# Altium footprint library new-version.PcbLib: 241 footprints (part 8 of 16)
Each footprint in its own frame and in the unit in brackets; x right, y up, seen from the top. Pads: shape width x height; smd on the part's side, far side on the other; paste and mask are expansions set on the pad; w line width, h text height; cw(c..) or ccw(c..) is an arc to the next point about the centre after c.
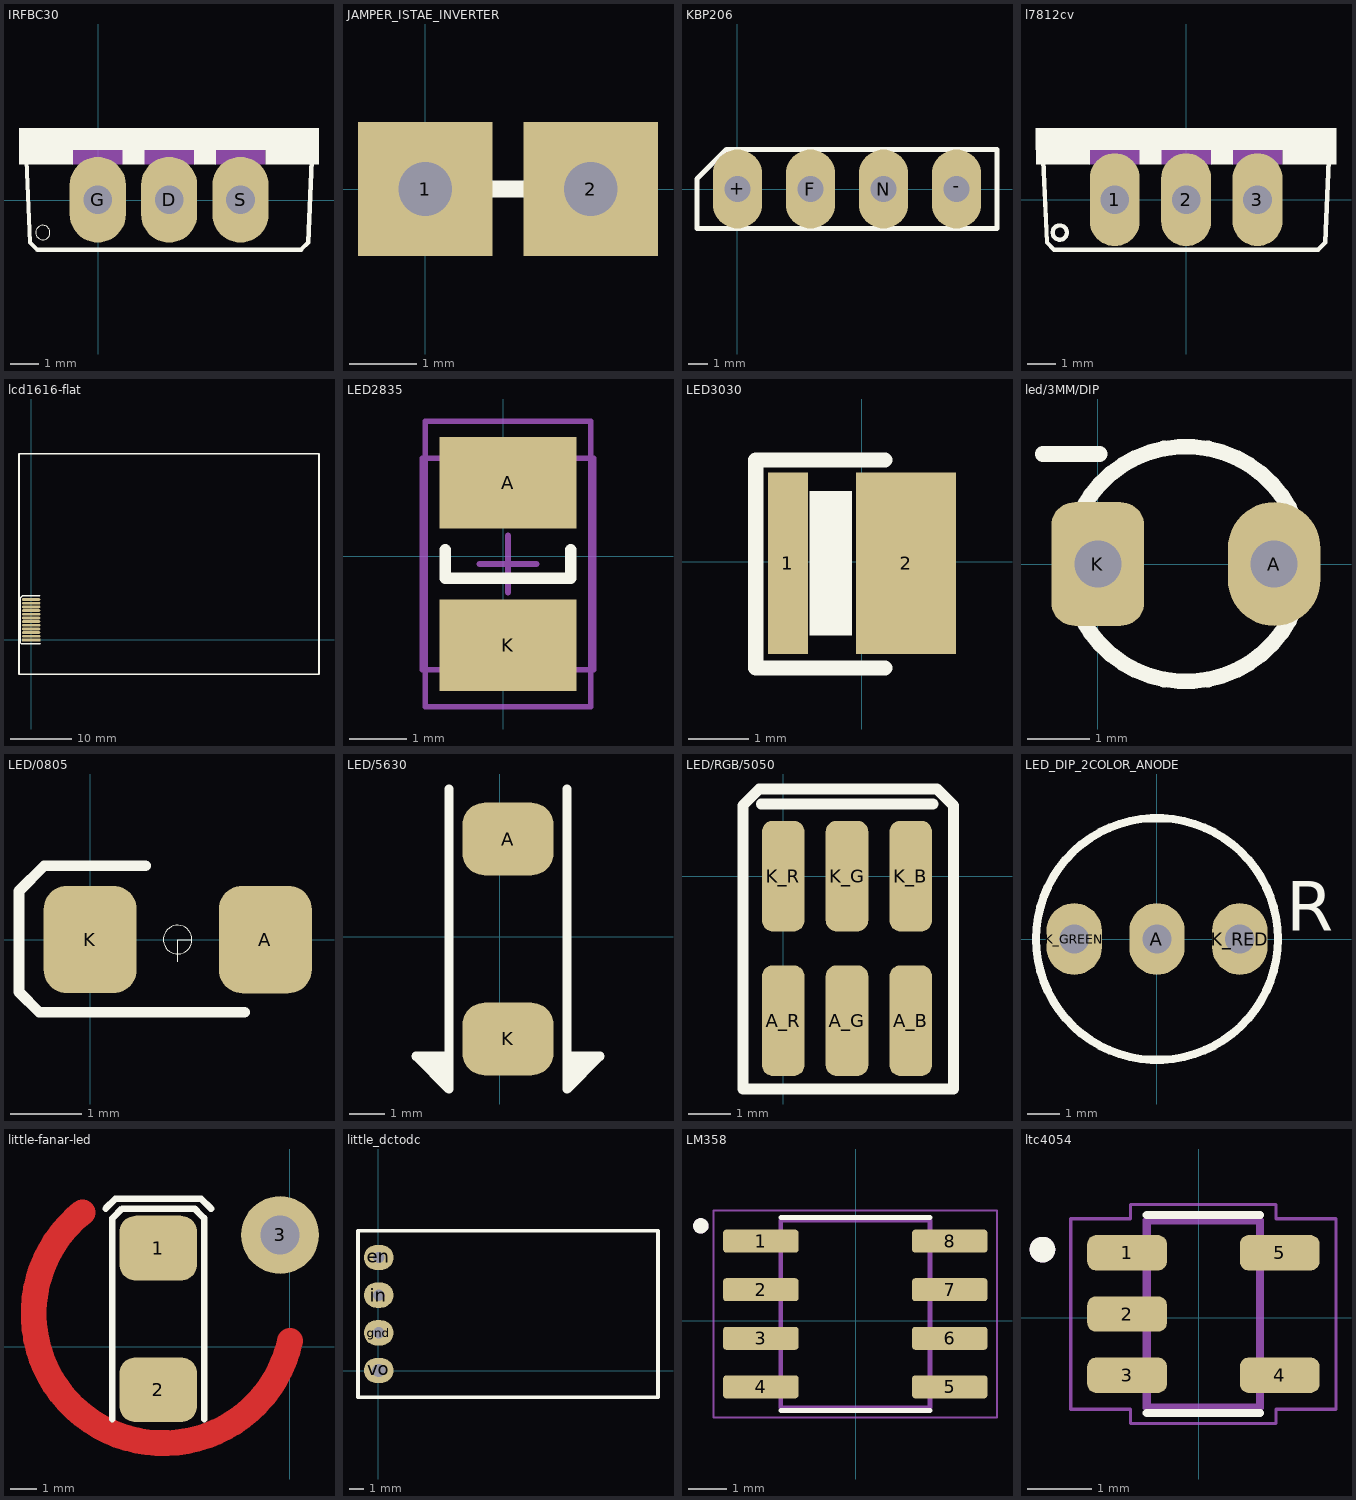
[diagram p7: the footprints below, top view; thin cyan lines are the x and y axes]

## IRFBC30 [mil]
pads (3):
  oval 78.74x120 hole 40: D(99.69,0.42) G(-0.31,0.42) S(199.69,0.42)
Top Overlay:
  circle w0: c-77.31,-45.58 r10
  region: 309.69,70.36 -110.71,70.36 -110.71,100.42 309.69,100.42
  region: -35.31,50.36 -110.56,50.36 -110.56,70.42 -35.31,70.42
  region: 64.69,50.33 34.58,50.33 34.58,70.42 64.69,70.42
  region: 164.69,50.38 134.71,50.38 134.71,70.42 164.69,70.42
  region: 309.69,50.36 234.83,50.36 234.83,70.42 309.69,70.42
  lines w6: -100.31,55.42 -95.31,-59.58 -85.31,-69.58 284.69,-69.58 294.69,-59.58 299.69,55.42
Mechanical 13:
  region: 34.69,50.37 -35.46,50.37 -35.46,70.42 34.69,70.42
  region: 134.69,50.41 64.68,50.41 64.68,70.42 134.69,70.42
  region: 234.69,50.4 164.71,50.4 164.71,70.42 234.69,70.42
3D body "IRF740.STEP": height 810.24, standoff -327.56, extent -101.89,-69.58 299.69,107.58

## JAMPER_ISTAE_INVERTER [mm]
pads (2):
  rect 2x2 hole 0.8: 1(0,0) 2(2.464,0)
Top Overlay:
  lines w0.254: 0,0 2.464,0

## KBP206 [mm]
pads (4):
  oval 2.5x4 hole 1.3: +(0,0) -(11.1,0) F(3.7,0) N(7.4,0)
Top Overlay:
  lines w0.254: -2.05,-2 -2.05,0.515 -0.565,2 13.15,2 13.15,-2 -2.05,-2

## l7812cv [mil]
pads (3):
  oval 70x130 hole 40: 1(-100,0) 2(0,0) 3(100,0)
Top Overlay:
  circle w6: c-177,-46 r10
  region: 210,69.95 -210.34,69.95 -210.34,100 210,100
  region: -135,49.99 -210.07,49.99 -210.07,70 -135,70
  region: -35,49.95 -65.07,49.95 -65.07,70 -35,70
  region: 65,49.94 35.05,49.94 35.05,70 65,70
  region: 210,49.99 135.05,49.99 135.05,70 210,70
  lines w6: -200,55 -195,-60 -185,-70 185,-70 195,-60 200,55
Mechanical 13:
  region: -65,50 -135.01,50 -135.01,70 -65,70
  region: 35,49.98 -35.02,49.98 -35.02,70 35,70
  region: 135,49.94 65.08,49.94 65.08,70 135,70

## lcd1616-flat [mm]
pads (12):
  rect 3x0.45 smd paste+0 mask+0: 1(-0.022,-0.001)
  oval 3x0.45 smd paste+0 mask+0: 2(-0.022,0.599) 3(-0.022,1.199) 4(-0.022,1.799) 5(-0.022,2.399) 6(-0.022,2.999) 7(-0.022,3.599) 8(-0.022,4.199) 9(-0.022,4.799) 10(-0.022,5.399) 11(-0.022,5.999) 12(-0.022,6.599)
Top Overlay:
  lines w0.254: 1.379,7.18 -1.465,7.18 -1.833,6.812 -1.833,-0.395 -1.576,-0.651 1.448,-0.651 ; -2,-5.6 46.99,-5.6 46.99,30.4 -2,30.4 -2,-5.6

## LED2835 [mm]
pads (2):
  rect 2.4x1.6 smd: A(0.086,1.287) K(0.086,-1.563)
Top Overlay:
  lines w0.2: -1.014,0.112 -1.014,-0.388 1.186,-0.388 1.186,0.112
Mechanical 13:
  lines w0.1: -1.414,-1.988 -1.414,1.712 1.586,1.712 1.586,-1.988 -1.414,-1.988
Mechanical 15:
  lines w0.1: -0.414,-0.138 0.586,-0.138 ; 0.086,-0.638 0.086,0.362 ; -1.364,-2.638 -1.364,2.362 1.536,2.362 1.536,-2.638 -1.364,-2.638
3D body "WL-SMTW_3528.stp": height 1.85, standoff -0.05, extent -1.314,-1.888 1.486,1.612

## LED3030 [mm]
pads (2):
  rect 0.66x3 smd: 1(-1.219,-0.025)
  rect 1.65x3 smd: 2(0.728,-0.025)
Top Overlay:
  rectangle: -0.864,-1.219 -0.164,1.168
  lines w0.254: 0.381,-1.753 -1.753,-1.753 -1.753,1.676 0.381,1.676

## led/3MM/DIP [mm]
pads (2):
  oval 1.5x2 hole 0.762: A(2.85,0)
  rrect50% 1.5x2 hole 0.762: K(0,0)
Top Overlay:
  circle w0.254: c1.425,0 r1.9
  lines w0.254: -0.892,1.778 0.025,1.778

## LED/0805 [mm]
pads (2):
  rrect50% 1.3x1.5 smd: A(2.45,0) K(0,0)
Top Overlay:
  circle w0.01: c1.225,0 r0.2
  lines w0.01: 1.225,-0.31 1.225,0 1.425,0
  lines w0.15: 0.775,1.033 -0.639,1.033 -0.993,0.679 -0.993,-0.732 -0.709,-1.016 2.158,-1.016

## LED/5630 [mil]
pads (2):
  rrect60% 100x80 smd: A(9.31,107.55) K(9.31,-112.45)
Top Overlay:
  region: 74.31,-167.46 110.31,-131.46 74.31,-131.46
  region: -55.69,-131.46 -55.69,-167.46 -91.69,-131.46
  lines w10: -55.69,-131.46 -91.69,-131.46 -55.69,-167.46 -55.69,-67.24 -55.69,62.76 -55.69,162.54 ; 74.31,-131.46 110.31,-131.46 74.31,-167.46 74.31,-67.24 74.31,62.76 74.31,162.54

## LED/RGB/5050 [mm]
pads (6):
  rrect50% 1x2.6 smd: A_B(3,-3.4) A_G(1.5,-3.4) A_R(0,-3.4) K_B(3,0) K_G(1.5,0) K_R(0,0)
Top Overlay:
  lines w0.254: -0.517,1.695 3.523,1.695 ; -0.95,-5.008 -0.95,1.661 -0.563,2.048 3.618,2.048 4.003,1.663 4.003,-5.008 -0.95,-5.008

## LED_DIP_2COLOR_ANODE [mm]
pads (3):
  oval 1.7x2.2 hole 0.9: A(0,0) K_GREEN(-2.54,0) K_RED(2.54,0)
Top Overlay:
  circle w0.254: c0,0 r3.708
  text "R" at 3.962,0.254 h1.52

## little-fanar-led [mm]
pads (3):
  rrect50% 3x2.5 smd: 1(-5.08,3.81) 2(-5.08,-1.651)
  round 3 hole 1.5: 3(-0.381,4.318)
Top Layer:
  lines w1: -8.011,5.188 ccw(c-4.888,1.284) -0.002,0.222
Top Overlay:
  lines w0.254: -7.112,5.334 -6.731,5.715 -6.477,5.715 -3.429,5.715 -3.048,5.334 ; -6.858,-2.794 -6.858,4.953 -6.477,5.334 -3.683,5.334 -3.429,5.08 -3.302,4.953 -3.302,-2.794
Bottom Overlay:
  circle w0.254: c-4.953,1.27 r5.5
3D body "led.stp": height 0.7, standoff 0.1, extent -6.556,-1.603 -3.556,4.397

## little_dctodc [mm]
pads (4):
  oval 2x1.7 hole 0.762: en(0.019,7.629) gnd(0.019,2.549) in(0.019,5.089)
  oval 2x1.7 hole 0.9: vo(0.019,0.009)
Top Overlay:
  lines w0.254: -1.378,-1.8 1.416,-1.8 18.867,-1.8 18.867,9.435 18.799,9.435 -1.378,9.435 -1.378,-1.8

## LM358 [mm]
pads (8):
  rrect25% 1.97x0.6 smd: 1(-2.478,2.079) 2(-2.478,0.809) 3(-2.478,-0.461) 4(-2.478,-1.731) 5(2.462,-1.731) 6(2.462,-0.461) 7(2.462,0.809) 8(2.462,2.079)
Top Overlay:
  circle w0.2: c-4.048,2.479 r0.1
  lines w0.127: -1.958,-2.351 1.942,-2.351 ; -1.958,2.699 1.942,2.699
Mechanical 13:
  circle w0.2: c-4.048,2.479 r0.1
  lines w0.127: -1.958,-2.279 -1.958,2.626 1.942,2.626 1.942,-2.279 -1.958,-2.279
Mechanical 15:
  lines w0.05: -3.713,-2.529 -3.713,2.876 3.697,2.876 3.697,-2.529 -3.713,-2.529

## ltc4054 [mm]
pads (5):
  rrect50% 1.24x0.55 smd: 1(-1.115,1.009) 2(-1.115,0.059) 3(-1.115,-0.891) 4(1.255,-0.891) 5(1.255,1.009)
Top Overlay:
  circle w0.2: c-2.43,1.059 r0.1
  lines w0.127: -0.81,-1.48 0.95,-1.48 ; -0.81,1.598 0.95,1.598
Mechanical 13:
  circle w0.2: c-2.43,1.059 r0.1
  lines w0.127: -0.81,-1.391 -0.81,1.509 0.95,1.509 0.95,-1.391 -0.81,-1.391
Mechanical 15:
  lines w0.05: -1.99,-1.421 -1.99,1.539 -1.06,1.539 -1.06,1.759 1.2,1.759 1.2,1.539 2.13,1.539 2.13,-1.421 1.2,-1.421 1.2,-1.641 -1.06,-1.641 -1.06,-1.421 -1.99,-1.421